# Altium schematic symbol library 4xxx_IEEE.SchLib: 99 symbols
Pins are listed as number, name and electrical type; pins without a type are passive.

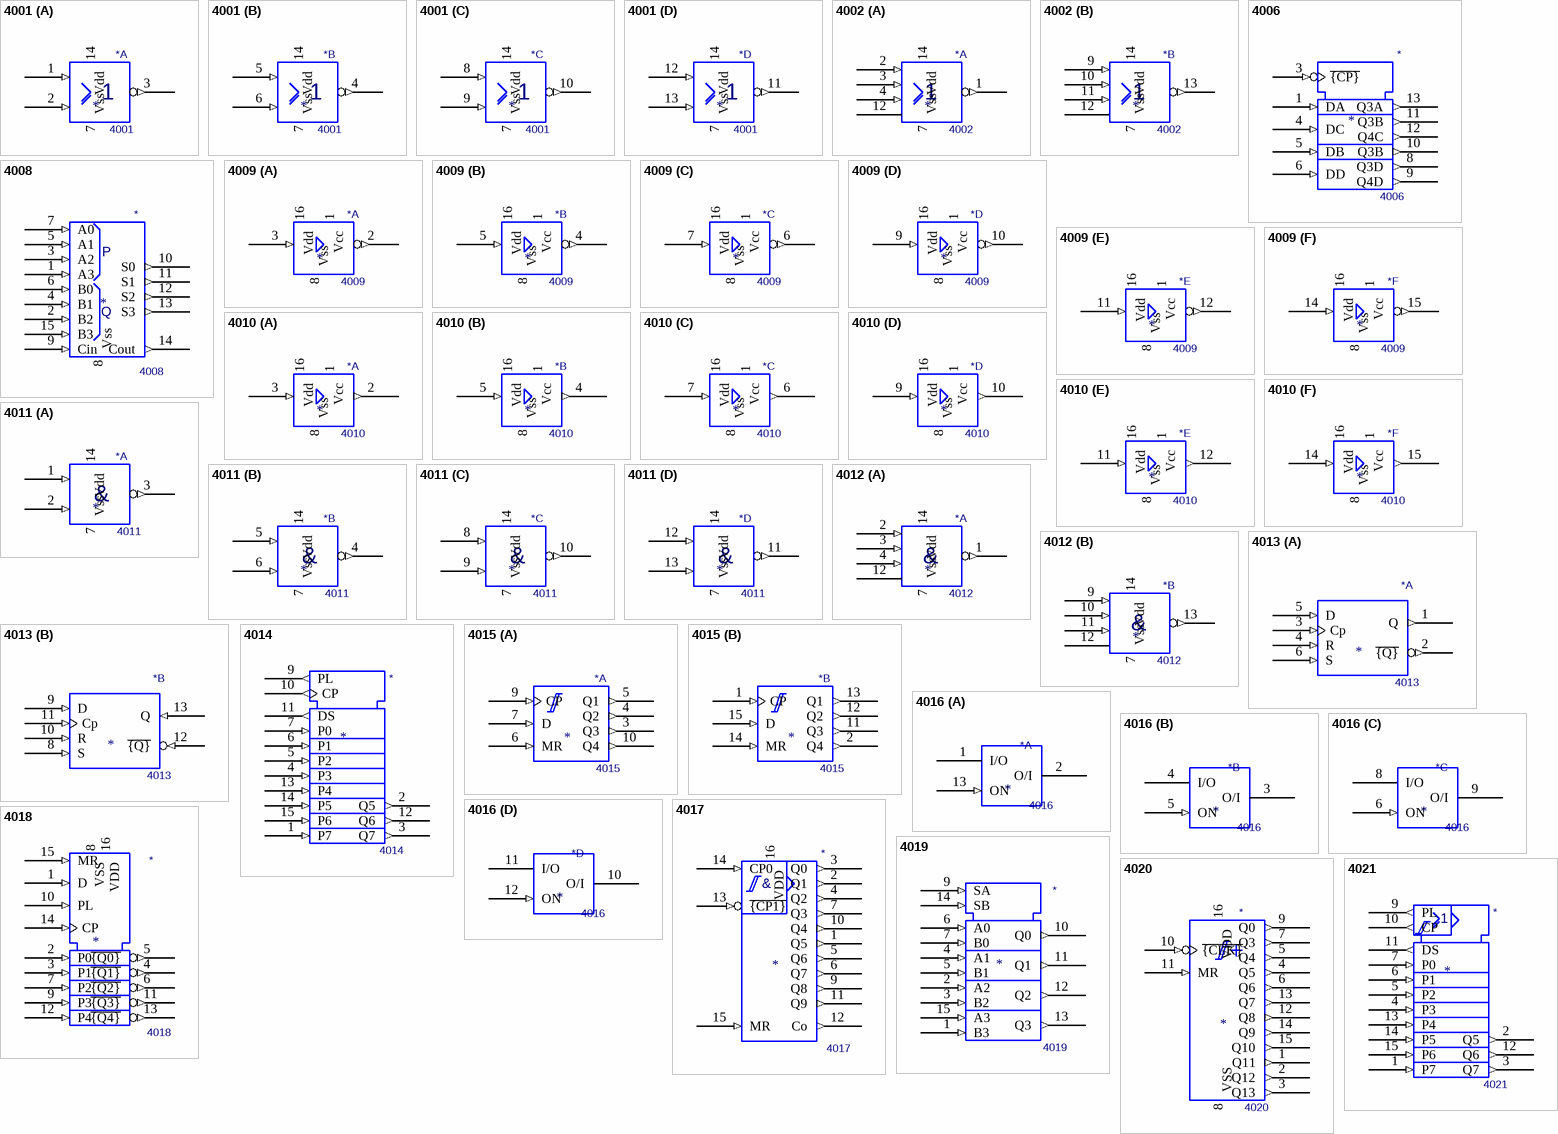
[diagram p0: symbols 4001 to 4021]

## 4001
designator *  value 4001
part A pins: 1 (in), 2 (in), 3 (out), 7 Vss (power), 14 Vdd (power)
part B pins: 4 (out), 5 (in), 6 (in), 7 Vss (power), 14 Vdd (power)
part C pins: 7 Vss (power), 8 (in), 9 (in), 10 (out), 14 Vdd (power)
part D pins: 7 Vss (power), 11 (out), 12 (in), 13 (in), 14 Vdd (power)

## 4002
designator *  value 4002
part A pins: 1 (out), 2 (in), 3 (in), 4 (in), 7 Vss (power), 12 (power), 14 Vdd (power)
part B pins: 7 Vss (power), 9 (in), 10 (in), 11 (in), 12 (power), 13 (out), 14 Vdd (power)

## 4006
designator *  value 4006
pins: 1 DA (in), 3 ~{{CP}} (in), 4 DC (in), 5 DB (in), 6 DD (in), 7 Vss (power) hidden, 8 Q3D (out), 9 Q4D (out), 10 Q3B (out), 11 Q3B (out), 12 Q4C (out), 13 Q3A (out), 14 Vdd (power) hidden

## 4008
designator *  value 4008
pins: 1 A3 (in), 2 B2 (in), 3 A2 (in), 4 B1 (in), 5 A1 (in), 6 B0 (in), 7 A0 (in), 8 Vss (out), 9 Cin (in), 10 S0 (out), 11 S1 (out), 12 S2 (out), 13 S3 (out), 14 Cout (out), 15 B3 (in), 16 Vdd (out) hidden
text: P; Q

## 4009
designator *  value 4009
part A pins: 1 Vcc (power), 2 (out), 3 (in), 8 Vss (power), 16 Vdd (power)
part B pins: 1 Vcc (power), 4 (out), 5 (in), 8 Vss (power), 16 Vdd (power)
part C pins: 1 Vcc (power), 6 (out), 7 (in), 8 Vss (power), 16 Vdd (power)
part D pins: 1 Vcc (power), 8 Vss (power), 9 (in), 10 (out), 16 Vdd (power)
part E pins: 1 Vcc (power), 8 Vss (power), 11 (in), 12 (out), 16 Vdd (power)
part F pins: 1 Vcc (power), 8 Vss (power), 14 (in), 15 (out), 16 Vdd (power)

## 4010
designator *  value 4010
part A pins: 1 Vcc (power), 2 (out), 3 (in), 8 Vss (power), 16 Vdd (power)
part B pins: 1 Vcc (power), 4 (out), 5 (in), 8 Vss (power), 16 Vdd (power)
part C pins: 1 Vcc (power), 6 (out), 7 (in), 8 Vss (power), 16 Vdd (power)
part D pins: 1 Vcc (power), 8 Vss (power), 9 (in), 10 (out), 16 Vdd (power)
part E pins: 1 Vcc (power), 8 Vss (power), 11 (in), 12 (out), 16 Vdd (power)
part F pins: 1 Vcc (power), 8 Vss (power), 14 (in), 15 (out), 16 Vdd (power)

## 4011
designator *  value 4011
part A pins: 1 (in), 2 (in), 3 (out), 7 Vss (power), 14 Vdd (power)
part B pins: 4 (out), 5 (in), 6 (in), 7 Vss (power), 14 Vdd (power)
part C pins: 7 Vss (power), 8 (in), 9 (in), 10 (out), 14 Vdd (power)
part D pins: 7 Vss (power), 11 (out), 12 (in), 13 (in), 14 Vdd (power)
part A text: &
part B text: &
part C text: &
part D text: &

## 4012
designator *  value 4012
part A pins: 1 (out), 2 (in), 3 (in), 4 (in), 7 Vss (power), 12 (power), 14 Vdd (power)
part B pins: 7 Vss (power), 9 (in), 10 (in), 11 (in), 12 (power), 13 (out), 14 Vdd (power)
part A text: &
part B text: &

## 4013
designator *  value 4013
part A pins: 1 Q (out), 2 ~{{Q}} (out), 3 Cp (in), 4 R (in), 5 D (in), 6 S (in), 7 Vss (power) hidden, 14 Vdd (power) hidden
part B pins: 7 Vss (power) hidden, 8 S (in), 9 D (in), 10 R (in), 11 Cp (in), 12 ~{{Q}} (in), 13 Q (in), 14 Vdd (power) hidden

## 4014
designator *  value 4014
pins: 1 P7 (in), 2 Q5 (out), 3 Q7 (out), 4 P3 (in), 5 P2 (in), 6 P1 (in), 7 P0 (in), 8 Vss (power) hidden, 9 PL (out), 10 CP (out), 11 DS (out), 12 Q6 (out), 13 P4 (in), 14 P5 (in), 15 P6 (in), 16 Vdd (power) hidden

## 4015
designator *  value 4015
part A pins: 3 Q3 (out), 4 Q2 (out), 5 Q1 (out), 6 MR (in), 7 D (in), 8 Vss (power) hidden, 9 CP (in), 10 Q4 (out), 16 Vdd (power) hidden
part B pins: 1 CP (in), 2 Q4 (out), 8 Vss (power) hidden, 11 Q3 (out), 12 Q2 (out), 13 Q1 (out), 14 MR (in), 15 D (in), 16 Vdd (power) hidden

## 4016
designator *  value 4016
part A pins: 1 I/O, 2 O/I, 7 Vss (power) hidden, 13 ON (in), 14 Vdd (power) hidden
part B pins: 3 O/I, 4 I/O, 5 ON (in), 7 Vss (power) hidden, 14 Vdd (power) hidden
part C pins: 6 ON (in), 7 Vss (power) hidden, 8 I/O, 9 O/I, 14 Vdd (power) hidden
part D pins: 7 Vss (power) hidden, 10 O/I, 11 I/O, 12 ON (in), 14 Vdd (power) hidden

## 4017
designator *  value 4017
pins: 1 Q5 (out), 2 Q1 (out), 3 Q0 (out), 4 Q2 (out), 5 Q6 (out), 6 Q7 (out), 7 Q3 (out), 8 VSS (power) hidden, 9 Q8 (out), 10 Q4 (out), 11 Q9 (out), 12 Co (out), 13 ~{{CP1}} (in), 14 CP0 (in), 15 MR (in), 16 VDD (power)
text: &

## 4018
designator *  value 4018
pins: 1 D (in), 2 P0 (in), 3 P1 (in), 4 ~{{Q1}} (out), 5 ~{{Q0}} (out), 6 ~{{Q2}} (out), 7 P2 (in), 8 VSS (power), 9 P3 (in), 10 PL (in), 11 ~{{Q3}} (out), 12 P4 (in), 13 ~{{Q4}} (out), 14 CP (in), 15 MR (in), 16 VDD (power)

## 4019
designator *  value 4019
pins: 1 B3 (in), 2 A2 (in), 3 B2 (in), 4 A1 (in), 5 B1 (in), 6 A0 (in), 7 B0 (in), 8 Vss (power) hidden, 9 SA (in), 10 Q0 (out), 11 Q1 (out), 12 Q2 (out), 13 Q3 (out), 14 SB (in), 15 A3 (in), 16 Vdd (power) hidden

## 4020
designator *  value 4020
pins: 1 Q11 (out), 2 Q12 (out), 3 Q13 (out), 4 Q5 (out), 5 Q4 (out), 6 Q6 (out), 7 Q3 (out), 8 VSS (power), 9 Q0 (out), 10 ~{{CLK}} (in), 11 MR (in), 12 Q8 (out), 13 Q7 (out), 14 Q9 (out), 15 Q10 (out), 16 VDD (power)

## 4021
designator *  value 4021
pins: 1 P7 (in), 2 Q5 (out), 3 Q7 (out), 4 P3 (in), 5 P2 (in), 6 P1 (in), 7 P0 (in), 8 Vss (power) hidden, 9 PL (out), 10 CP (out), 11 DS (out), 12 Q6 (out), 13 P4 (in), 14 P5 (in), 15 P6 (in), 16 Vdd (power) hidden

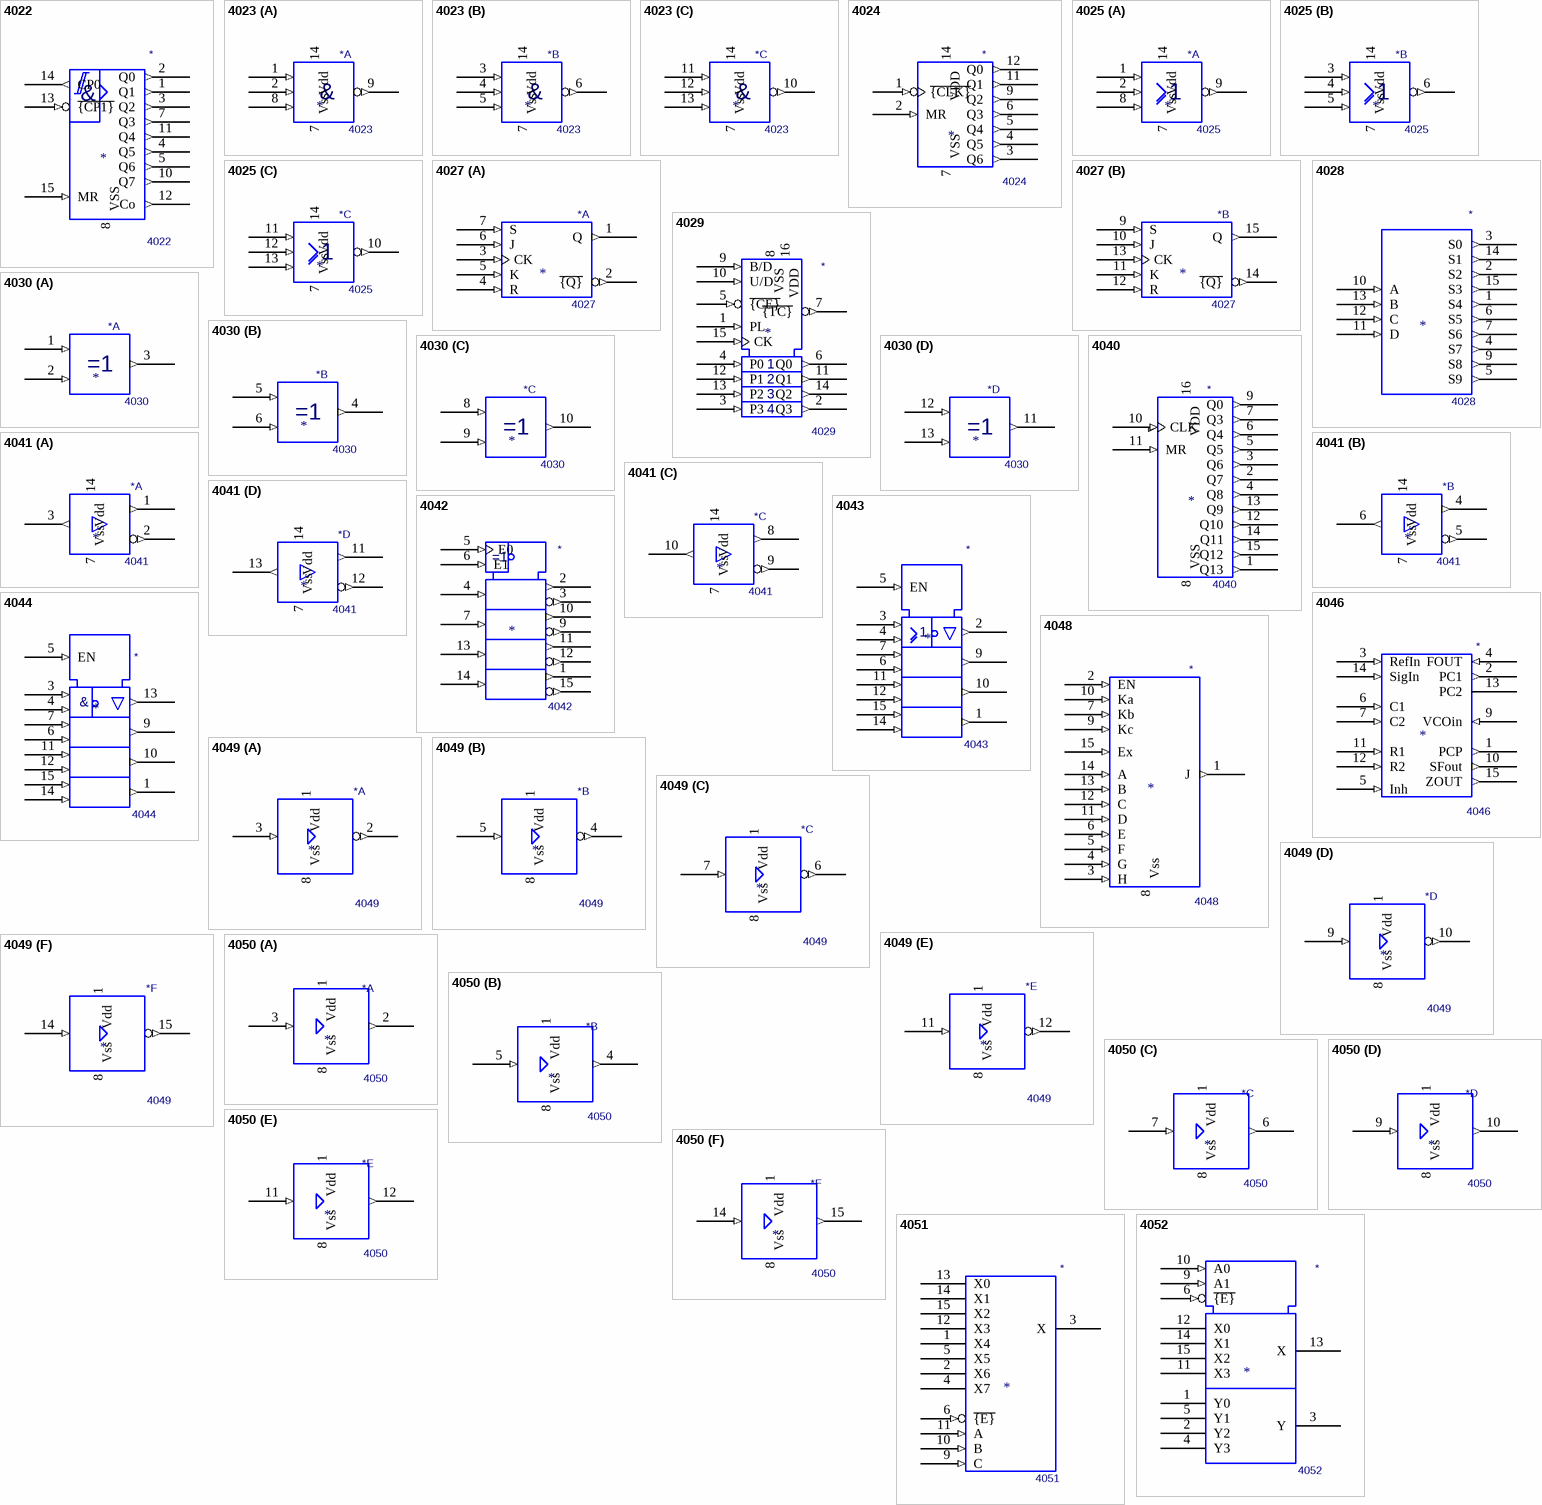
[diagram p1: symbols 4022 to 4052]

## 4022
designator *  value 4022
pins: 1 Q1 (out), 2 Q0 (out), 3 Q2 (out), 4 Q5 (out), 5 Q6 (out), 7 Q3 (out), 8 VSS (power), 10 Q7 (out), 11 Q4 (out), 12 Co (out), 13 ~{{CP1}} (in), 14 CP0 (out), 15 MR (in), 16 VDD (power) hidden
text: &

## 4023
designator *  value 4023
part A pins: 1 (in), 2 (in), 7 Vss (power), 8 (in), 9 (out), 14 Vdd (power)
part B pins: 3 (in), 4 (in), 5 (in), 6 (out), 7 Vss (power), 14 Vdd (power)
part C pins: 7 Vss (power), 10 (out), 11 (in), 12 (in), 13 (in), 14 Vdd (power)
part A text: &
part B text: &
part C text: &

## 4024
designator *  value 4024
pins: 1 ~{{CLK}} (in), 2 MR (in), 3 Q6 (out), 4 Q5 (out), 5 Q4 (out), 6 Q3 (out), 7 VSS (power), 9 Q2 (out), 11 Q1 (out), 12 Q0 (out), 14 VDD (power)

## 4025
designator *  value 4025
part A pins: 1 (in), 2 (in), 7 Vss (power), 8 (in), 9 (out), 14 Vdd (power)
part B pins: 3 (in), 4 (in), 5 (in), 6 (out), 7 Vss (power), 14 Vdd (power)
part C pins: 7 Vss (power), 10 (out), 11 (in), 12 (in), 13 (in), 14 Vdd (power)

## 4027
designator *  value 4027
part A pins: 1 Q (out), 2 ~{{Q}} (out), 3 CK (in), 4 R (in), 5 K (in), 6 J (in), 7 S (in), 8 VDD (power) hidden, 16 VDD (power) hidden
part B pins: 8 VDD (power) hidden, 9 S (in), 10 J (in), 11 K (in), 12 R (in), 13 CK (in), 14 ~{{Q}} (out), 15 Q (out), 16 VDD (power) hidden

## 4028
designator *  value 4028
pins: 1 S4 (out), 2 S2 (out), 3 S0 (out), 4 S7 (out), 5 S9 (out), 6 S5 (out), 7 S6 (out), 8 VSS (power) hidden, 9 S8 (out), 10 A (in), 11 D (in), 12 C (in), 13 B (in), 14 S1 (out), 15 S3 (out), 16 VDD (power) hidden

## 4029
designator *  value 4029
pins: 1 PL (in), 2 Q3 (out), 3 P3 (in), 4 P0 (in), 5 ~{{CE}} (in), 6 Q0 (out), 7 ~{{TC}} (out), 8 VSS (power), 9 B/D (in), 10 U/D (in), 11 Q1 (out), 12 P1 (in), 13 P2 (in), 14 Q2 (out), 15 CK (in), 16 VDD (power)

## 4030
designator *  value 4030
part A pins: 1 (in), 2 (in), 3 (out), 7 Vss (power) hidden, 14 Vdd (power) hidden
part B pins: 4 (out), 5 (in), 6 (in), 7 Vss (power) hidden, 14 Vdd (power) hidden
part C pins: 7 Vss (power) hidden, 8 (in), 9 (in), 10 (out), 14 Vdd (power) hidden
part D pins: 7 Vss (power) hidden, 11 (out), 12 (in), 13 (in), 14 Vdd (power) hidden

## 4040
designator *  value 4040
pins: 1 Q13 (out), 2 Q7 (out), 3 Q6 (out), 4 Q8 (out), 5 Q5 (out), 6 Q4 (out), 7 Q3 (out), 8 VSS (power), 9 Q0 (out), 10 CLK (in), 11 MR (in), 12 Q10 (out), 13 Q9 (out), 14 Q11 (out), 15 Q12 (out), 16 VDD (power)

## 4041
designator *  value 4041
part A pins: 1 (out), 2 (out), 3 (out), 7 Vss (power), 14 Vdd (power)
part B pins: 4 (out), 5 (out), 6 (out), 7 Vss (power), 14 Vdd (power)
part C pins: 7 Vss (power), 8 (out), 9 (out), 10 (out), 14 Vdd (power)
part D pins: 7 Vss (power), 11 (out), 12 (out), 13 (out), 14 Vdd (power)

## 4042
designator *  value 4042
pins: 1 (out), 2 (out), 3 (out), 4 (in), 5 E0 (in), 6 E1 (in), 7 (in), 8 Vss (power) hidden, 9 (out), 10 (out), 11 (out), 12 (out), 13 (in), 14 (in), 15 (out), 16 Vdd (power) hidden

## 4043
designator *  value 4043
pins: 1 (out), 2 (out), 3 (in), 4 (in), 5 EN (in), 6 (in), 7 (in), 8 Vss (in) hidden, 9 (out), 10 (out), 11 (in), 12 (in), 14 (in), 15 (in), 16 Vdd (in) hidden

## 4044
designator *  value 4044
pins: 1 (out), 3 (in), 4 (in), 5 EN (in), 6 (in), 7 (in), 8 Vss (power) hidden, 9 (out), 10 (out), 11 (in), 12 (in), 13 (out), 14 (in), 15 (in), 16 Vdd (power) hidden
text: &

## 4046
designator *  value 4046
pins: 1 PCP (out), 2 PC1 (out), 3 RefIn (in), 4 FOUT (in), 5 Inh (in), 6 C1 (in), 7 C2 (in), 8 VSS (power) hidden, 9 VCOin (in), 10 SFout (out), 11 R1 (in), 12 R2 (in), 13 PC2 (hiz), 14 SigIn (in), 15 ZOUT (out), 16 VDD (power) hidden

## 4048
designator *  value 4048
pins: 1 J (out), 2 EN (in), 3 H (in), 4 G (in), 5 F (in), 6 E (in), 7 Kb (in), 8 Vss (power), 9 Kc (in), 10 Ka (in), 11 D (in), 12 C (in), 13 B (in), 14 A (in), 15 Ex (in), 16 Vdd (power) hidden

## 4049
designator *  value 4049
part A pins: 1 Vdd (power), 2 (out), 3 (in), 8 Vss (power)
part B pins: 1 Vdd (power), 4 (out), 5 (in), 8 Vss (power)
part C pins: 1 Vdd (power), 6 (out), 7 (in), 8 Vss (power)
part D pins: 1 Vdd (power), 8 Vss (power), 9 (in), 10 (out)
part E pins: 1 Vdd (power), 8 Vss (power), 11 (in), 12 (out)
part F pins: 1 Vdd (power), 8 Vss (power), 14 (in), 15 (out)

## 4050
designator *  value 4050
part A pins: 1 Vdd (power), 2 (out), 3 (in), 8 Vss (power)
part B pins: 1 Vdd (power), 4 (out), 5 (in), 8 Vss (power)
part C pins: 1 Vdd (power), 6 (out), 7 (in), 8 Vss (power)
part D pins: 1 Vdd (power), 8 Vss (power), 9 (in), 10 (out)
part E pins: 1 Vdd (power), 8 Vss (power), 11 (in), 12 (out)
part F pins: 1 Vdd (power), 8 Vss (power), 14 (in), 15 (out)

## 4051
designator *  value 4051
pins: 1 X4, 2 X6, 3 X, 4 X7, 5 X5, 6 ~{{E}} (in), 7 VEE (power) hidden, 8 Vss (power) hidden, 9 C (in), 10 B (in), 11 A (in), 12 X3, 13 X0, 14 X1, 15 X2, 16 Vdd (power) hidden

## 4052
designator *  value 4052
pins: 1 Y0, 2 Y2, 3 Y, 4 Y3, 5 Y1, 6 ~{{E}} (in), 7 VEE (power) hidden, 8 Vss (power) hidden, 9 A1 (in), 10 A0 (in), 11 X3, 12 X0, 13 X, 14 X1, 15 X2, 16 Vdd (power) hidden

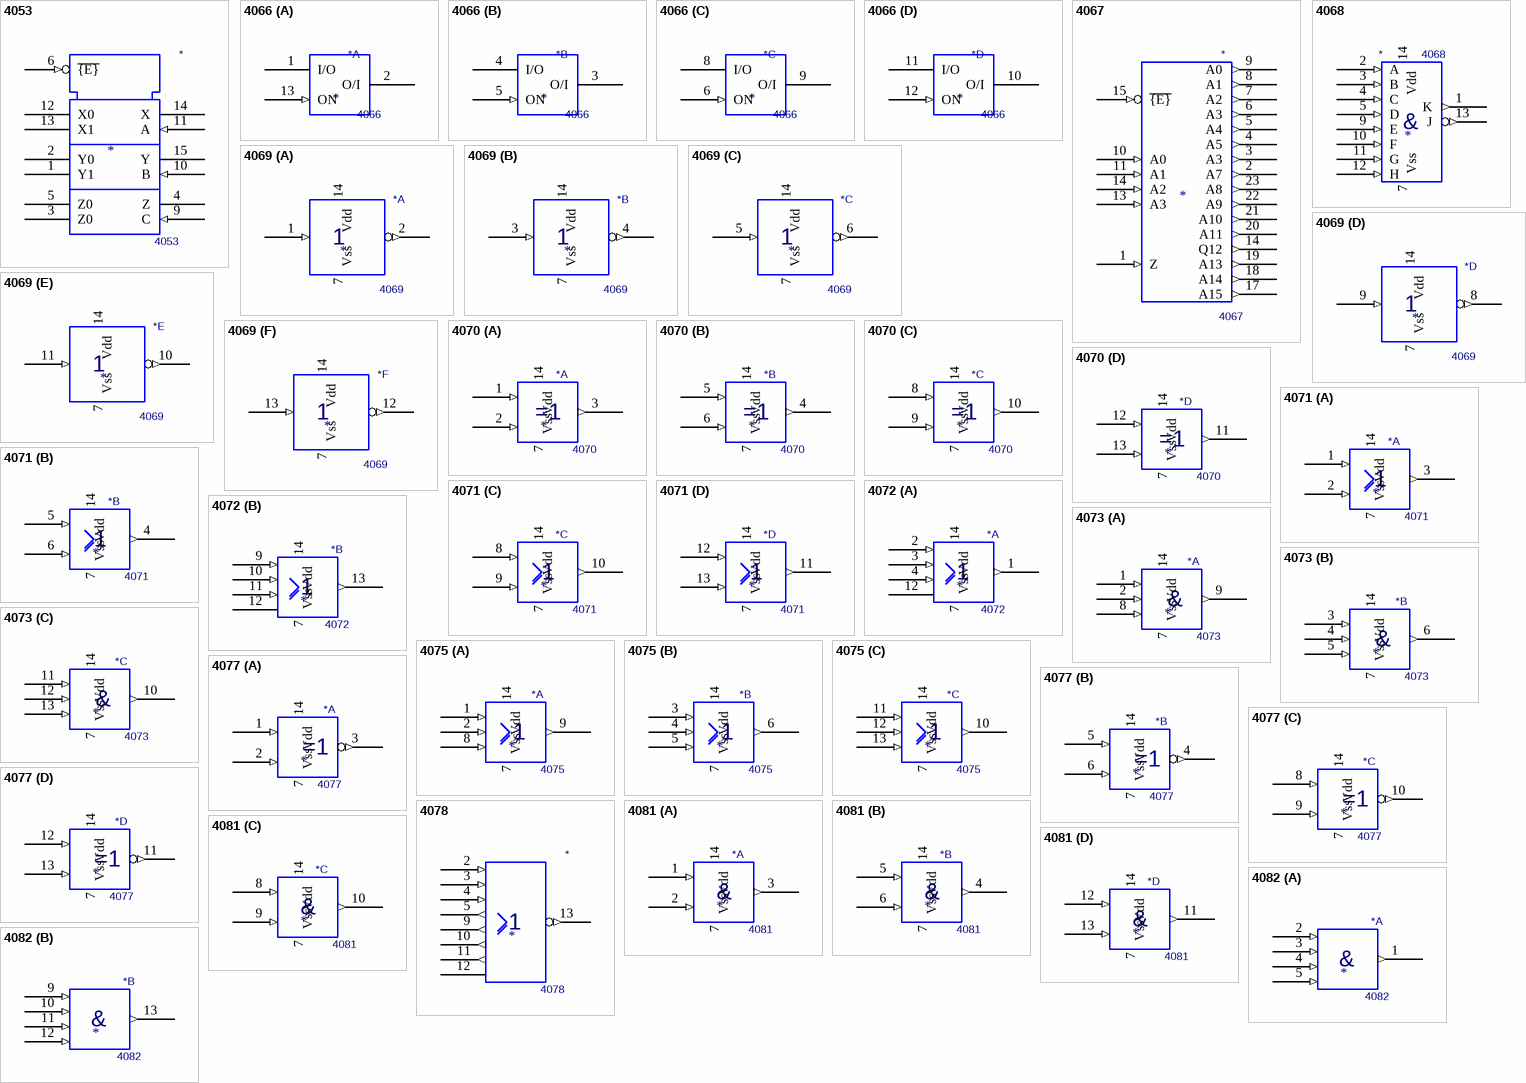
[diagram p2: symbols 4053 to 4082]

## 4053
designator *  value 4053
pins: 1 Y1, 2 Y0, 3 Z0, 4 Z, 5 Z0, 6 ~{{E}} (in), 7 VEE (power) hidden, 8 VSS (power) hidden, 9 C (in), 10 B (in), 11 A (in), 12 X0, 13 X1, 14 X, 15 Y, 16 VDD (power) hidden

## 4066
designator *  value 4066
part A pins: 1 I/O, 2 O/I, 7 Vss (power) hidden, 13 ON (in), 14 Vdd (power) hidden
part B pins: 3 O/I, 4 I/O, 5 ON (in), 7 Vss (power) hidden, 14 Vdd (power) hidden
part C pins: 6 ON (in), 7 Vss (power) hidden, 8 I/O, 9 O/I, 14 Vdd (power) hidden
part D pins: 7 Vss (power) hidden, 10 O/I, 11 I/O, 12 ON (in), 14 Vdd (power) hidden

## 4067
designator *  value 4067
pins: 1 Z (in), 2 A7 (out), 3 A3 (out), 4 A5 (out), 5 A4 (out), 6 A3 (out), 7 A2 (out), 8 A1 (out), 9 A0 (out), 10 A0 (in), 11 A1 (in), 12 Vss (power) hidden, 13 A3 (in), 14 A2 (in), 14 Q12 (out), 15 ~{{E}} (in), 17 A15 (out), 18 A14 (out), 19 A13 (out), 20 A11 (out), 21 A10 (out), 22 A9 (out), 23 A8 (out), 24 Vdd (power) hidden

## 4068
designator *  value 4068
ki_keywords: cmos nand and 8-input; ki_description: CMOS 8-input NAND/AND Gate; Supplier: http://www.ti.com/lit/ds/symlink/cd4068b.pdf
pins: 1 K (out), 2 A (in), 3 B (in), 4 C (in), 5 D (in), 7 Vss (power), 9 E (in), 10 F (in), 11 G (in), 12 H (in), 13 J (out), 14 Vdd (power)
text: &

## 4069
designator *  value 4069
part A pins: 1 (in), 2 (out), 7 Vss (power), 14 Vdd (power)
part B pins: 3 (in), 4 (out), 7 Vss (power), 14 Vdd (power)
part C pins: 5 (in), 6 (out), 7 Vss (power), 14 Vdd (power)
part D pins: 7 Vss (power), 8 (out), 9 (in), 14 Vdd (power)
part E pins: 7 Vss (power), 10 (out), 11 (in), 14 Vdd (power)
part F pins: 7 Vss (power), 12 (out), 13 (in), 14 Vdd (power)

## 4070
designator *  value 4070
part A pins: 1 (in), 2 (in), 3 (out), 7 Vss (power), 14 Vdd (power)
part B pins: 4 (out), 5 (in), 6 (in), 7 Vss (power), 14 Vdd (power)
part C pins: 7 Vss (power), 8 (in), 9 (in), 10 (out), 14 Vdd (power)
part D pins: 7 Vss (power), 11 (out), 12 (in), 13 (in), 14 Vdd (power)

## 4071
designator *  value 4071
part A pins: 1 (in), 2 (in), 3 (out), 7 Vss (power), 14 Vdd (power)
part B pins: 4 (out), 5 (in), 6 (in), 7 Vss (power), 14 Vdd (power)
part C pins: 7 Vss (power), 8 (in), 9 (in), 10 (out), 14 Vdd (power)
part D pins: 7 Vss (power), 11 (out), 12 (in), 13 (in), 14 Vdd (power)

## 4072
designator *  value 4072
part A pins: 1 (out), 2 (in), 3 (in), 4 (in), 7 Vss (power), 12 (power), 14 Vdd (power)
part B pins: 7 Vss (power), 9 (in), 10 (in), 11 (in), 12 (power), 13 (out), 14 Vdd (power)

## 4073
designator *  value 4073
part A pins: 1 (in), 2 (in), 7 Vss (power), 8 (in), 9 (out), 14 Vdd (power)
part B pins: 3 (in), 4 (in), 5 (in), 6 (out), 7 Vss (power), 14 Vdd (power)
part C pins: 7 Vss (power), 10 (out), 11 (in), 12 (in), 13 (in), 14 Vdd (power)
part A text: &
part B text: &
part C text: &

## 4075
designator *  value 4075
part A pins: 1 (in), 2 (in), 7 Vss (power), 8 (in), 9 (out), 14 Vdd (power)
part B pins: 3 (in), 4 (in), 5 (in), 6 (out), 7 Vss (power), 14 Vdd (power)
part C pins: 7 Vss (power), 10 (out), 11 (in), 12 (in), 13 (in), 14 Vdd (power)

## 4077
designator *  value 4077
part A pins: 1 (in), 2 (in), 3 (out), 7 Vss (power), 14 Vdd (power)
part B pins: 4 (out), 5 (in), 6 (in), 7 Vss (power), 14 Vdd (power)
part C pins: 7 Vss (power), 8 (in), 9 (in), 10 (out), 14 Vdd (power)
part D pins: 7 Vss (power), 11 (out), 12 (in), 13 (in), 14 Vdd (power)

## 4078
designator *  value 4078
pins: 2 (in), 3 (in), 4 (in), 5 (out), 7 Vss (power) hidden, 9 (out), 10 (out), 11 (out), 12 (power), 13 (out), 14 Vdd (power) hidden
text: 1

## 4081
designator *  value 4081
part A pins: 1 (in), 2 (in), 3 (out), 7 Vss (power), 14 Vdd (power)
part B pins: 4 (out), 5 (in), 6 (in), 7 Vss (power), 14 Vdd (power)
part C pins: 7 Vss (power), 8 (in), 9 (in), 10 (out), 14 Vdd (power)
part D pins: 7 Vss (power), 11 (out), 12 (in), 13 (in), 14 Vdd (power)
part A text: &
part B text: &
part C text: &
part D text: &

## 4082
designator *  value 4082
part A pins: 1 (out), 2 (in), 3 (in), 4 (in), 5 (in), 7 Vss (power) hidden, 14 Vdd (power) hidden
part B pins: 7 Vss (power) hidden, 9 (in), 10 (in), 11 (in), 12 (in), 13 (out), 14 Vdd (power) hidden
part A text: &
part B text: &

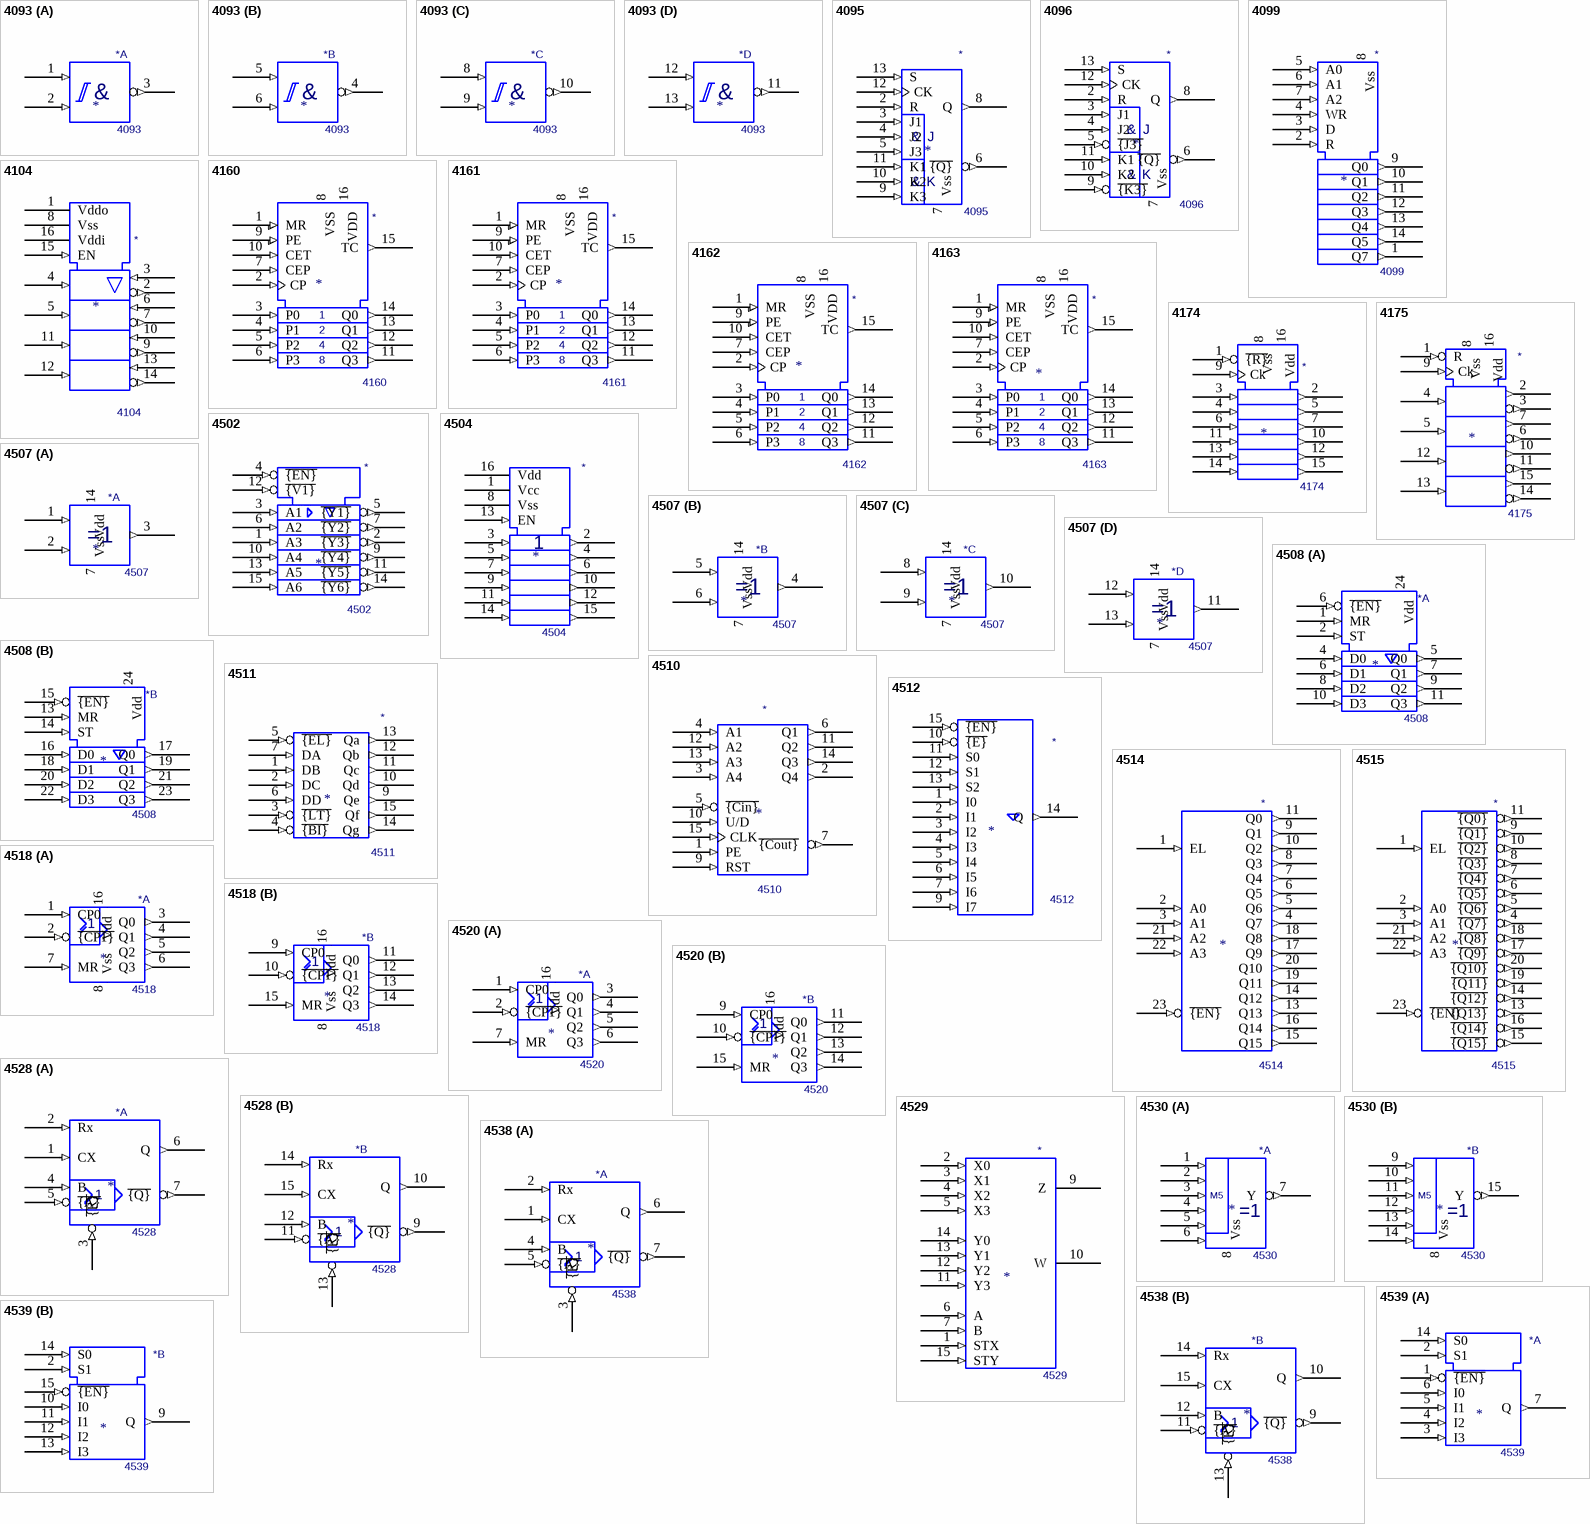
[diagram p3: symbols 4093 to 4539]

## 4093
designator *  value 4093
part A pins: 1 (in), 2 (in), 3 (out), 7 Vss (power) hidden, 14 Vdd (power) hidden
part B pins: 4 (out), 5 (in), 6 (in), 7 Vss (power) hidden, 14 Vdd (power) hidden
part C pins: 7 Vss (power) hidden, 8 (in), 9 (in), 10 (out), 14 Vdd (power) hidden
part D pins: 7 Vss (power) hidden, 11 (out), 12 (in), 13 (in), 14 Vdd (power) hidden
part A text: &
part B text: &
part C text: &
part D text: &

## 4095
designator *  value 4095
pins: 2 R (in), 3 J1 (in), 4 J2 (in), 5 J3 (in), 6 ~{{Q}} (out), 7 Vss (power), 8 Q (out), 9 K3 (in), 10 K2 (in), 11 K1 (in), 12 CK (in), 13 S (in), 14 Vdd (power) hidden
text: &; J; K

## 4096
designator *  value 4096
pins: 2 R (in), 3 J1 (in), 4 J2 (in), 5 ~{{J3}} (in), 6 ~{{Q}} (out), 7 Vss (power), 8 Q (out), 9 ~{{K3}} (in), 10 K2 (in), 11 K1 (in), 12 CK (in), 13 S (in), 14 Vdd (power) hidden
text: &; J; K

## 4099
designator *  value 4099
pins: 1 Q7 (out), 2 R (in), 3 D (in), 4 WR (in), 5 A0 (in), 6 A1 (in), 7 A2 (in), 8 Vss (power), 9 Q0 (out), 10 Q1 (out), 11 Q2 (out), 12 Q3 (out), 13 Q4 (out), 14 Q5 (out), 16 Vdd (power) hidden

## 4104
designator *  value 4104
pins: 1 Vddo (power), 2 (out), 3 (in), 4 (in), 5 (in), 6 (in), 7 (out), 8 Vss (power), 9 (out), 10 (in), 11 (in), 12 (in), 13 (in), 14 (out), 15 EN (in), 16 Vddi (power)

## 4160
designator *  value 4160
pins: 1 MR (in), 2 CP (in), 3 P0 (in), 4 P1 (in), 5 P2 (in), 6 P3 (in), 7 CEP (in), 8 VSS (power), 9 PE (in), 10 CET (in), 11 Q3 (out), 12 Q2 (out), 13 Q1 (out), 14 Q0 (out), 15 TC (out), 16 VDD (power)

## 4161
designator *  value 4161
pins: 1 MR (in), 2 CP (in), 3 P0 (in), 4 P1 (in), 5 P2 (in), 6 P3 (in), 7 CEP (in), 8 VSS (power), 9 PE (in), 10 CET (in), 11 Q3 (out), 12 Q2 (out), 13 Q1 (out), 14 Q0 (out), 15 TC (out), 16 VDD (power)

## 4162
designator *  value 4162
pins: 1 MR (in), 2 CP (in), 3 P0 (in), 4 P1 (in), 5 P2 (in), 6 P3 (in), 7 CEP (in), 8 VSS (power), 9 PE (in), 10 CET (in), 11 Q3 (out), 12 Q2 (out), 13 Q1 (out), 14 Q0 (out), 15 TC (out), 16 VDD (power)

## 4163
designator *  value 4163
pins: 1 MR (in), 2 CP (in), 3 P0 (in), 4 P1 (in), 5 P2 (in), 6 P3 (in), 7 CEP (in), 8 VSS (power), 9 PE (in), 10 CET (in), 11 Q3 (out), 12 Q2 (out), 13 Q1 (out), 14 Q0 (out), 15 TC (out), 16 VDD (power)

## 4174
designator *  value 4174
pins: 1 ~{{R}} (in), 2 (out), 3 (in), 4 (in), 5 (out), 6 (in), 7 (out), 8 Vss (power), 9 Ck (in), 10 (out), 11 (in), 12 (out), 13 (in), 14 (in), 15 (out), 16 Vdd (power)

## 4175
designator *  value 4175
pins: 1 R (in), 2 (out), 3 (out), 4 (in), 5 (in), 6 (out), 7 (out), 8 Vss (power), 9 Ck (in), 10 (out), 11 (out), 12 (in), 13 (in), 14 (out), 15 (out), 16 Vdd (power)

## 4502
designator *  value 4502
pins: 1 A3 (in), 2 ~{{Y3}} (out), 3 A1 (in), 4 ~{{EN}} (in), 5 ~{{Y1}} (out), 6 A2 (in), 7 ~{{Y2}} (out), 8 Vss (power) hidden, 9 ~{{Y4}} (out), 10 A4 (in), 11 ~{{Y5}} (out), 12 ~{{V1}} (in), 13 A5 (in), 14 ~{{Y6}} (out), 15 A6 (in), 16 Vdd (power) hidden

## 4504
designator *  value 4504
ki_keywords: cmos, level converter; ki_description: 4504 Hex Voltage-level Shifter; Supplier: http://www.ti.com/lit/ds/symlink/cd4504b.pdf
pins: 1 Vcc (power), 2 (out), 3 (in), 4 (out), 5 (in), 6 (out), 7 (in), 8 Vss (power), 9 (in), 10 (out), 11 (in), 12 (out), 13 EN (in), 14 (in), 15 (out), 16 Vdd (power)

## 4507
designator *  value 4507
part A pins: 1 (in), 2 (in), 3 (out), 7 Vss (power), 14 Vdd (power)
part B pins: 4 (out), 5 (in), 6 (in), 7 Vss (power), 14 Vdd (power)
part C pins: 7 Vss (power), 8 (in), 9 (in), 10 (out), 14 Vdd (power)
part D pins: 7 Vss (power), 11 (out), 12 (in), 13 (in), 14 Vdd (power)

## 4508
designator *  value 4508
part A pins: 1 MR (in), 2 ST (in), 4 D0 (in), 5 Q0 (out), 6 ~{{EN}} (in), 6 D1 (in), 7 Q1 (out), 8 D2 (in), 9 Q2 (out), 10 D3 (in), 11 Q3 (out), 12 Vss (power) hidden, 24 Vdd (power)
part B pins: 12 Vss (power) hidden, 13 MR (in), 14 ST (in), 15 ~{{EN}} (in), 16 D0 (in), 17 Q0 (out), 18 D1 (in), 19 Q1 (out), 20 D2 (in), 21 Q2 (out), 22 D3 (in), 23 Q3 (out), 24 Vdd (power)

## 4510
designator *  value 4510
pins: 1 PE (in), 2 Q4 (out), 3 A4 (in), 4 A1 (in), 5 ~{{Cin}} (in), 6 Q1 (out), 7 ~{{Cout}} (out), 8 Vss (power) hidden, 9 RST (in), 10 U/D (in), 11 Q2 (out), 12 A2 (in), 13 A3 (in), 14 Q3 (out), 15 CLK (in), 16 Vdd (power) hidden

## 4511
designator *  value 4511
pins: 1 DB (in), 2 DC (in), 3 ~{{LT}} (in), 4 ~{{BI}} (in), 5 ~{{EL}} (in), 6 DD (in), 7 DA (in), 8 Vss (power) hidden, 9 Qe (out), 10 Qd (out), 11 Qc (out), 12 Qb (out), 13 Qa (out), 14 Qg (out), 15 Qf (out), 16 Vdd (power) hidden

## 4512
designator *  value 4512
pins: 1 I0 (in), 2 I1 (in), 3 I2 (in), 4 I3 (in), 5 I4 (in), 6 I5 (in), 7 I6 (in), 8 Vss (power) hidden, 9 I7 (in), 10 ~{{E}} (in), 11 S0 (in), 12 S1 (in), 13 S2 (in), 14 Q (out), 15 ~{{EN}} (in), 16 Vdd (power) hidden

## 4514
designator *  value 4514
pins: 1 EL (in), 2 A0 (in), 3 A1 (in), 4 Q7 (out), 5 Q6 (out), 6 Q5 (out), 7 Q4 (out), 8 Q3 (out), 9 Q1 (out), 10 Q2 (out), 11 Q0 (out), 12 Vss (power) hidden, 13 Q13 (out), 14 Q12 (out), 15 Q15 (out), 16 Q14 (out), 17 Q9 (out), 18 Q8 (out), 19 Q11 (out), 20 Q10 (out), 21 A2 (in), 22 A3 (in), 23 ~{{EN}} (in), 24 Vdd (power) hidden

## 4515
designator *  value 4515
pins: 1 EL (in), 2 A0 (in), 3 A1 (in), 4 ~{{Q7}} (out), 5 ~{{Q6}} (out), 6 ~{{Q5}} (out), 7 ~{{Q4}} (out), 8 ~{{Q3}} (out), 9 ~{{Q1}} (out), 10 ~{{Q2}} (out), 11 ~{{Q0}} (out), 12 Vss (power) hidden, 13 ~{{Q13}} (out), 14 ~{{Q12}} (out), 15 ~{{Q15}} (out), 16 ~{{Q14}} (out), 17 ~{{Q9}} (out), 18 ~{{Q8}} (out), 19 ~{{Q11}} (out), 20 ~{{Q10}} (out), 21 A2 (in), 22 A3 (in), 23 ~{{EN}} (in), 24 Vdd (power) hidden

## 4518
designator *  value 4518
part A pins: 1 CP0 (in), 2 ~{{CP1}} (in), 3 Q0 (out), 4 Q1 (out), 5 Q2 (out), 6 Q3 (out), 7 MR (in), 8 Vss (power), 16 Vdd (power)
part B pins: 8 Vss (power), 9 CP0 (in), 10 ~{{CP1}} (in), 11 Q0 (out), 12 Q1 (out), 13 Q2 (out), 14 Q3 (out), 15 MR (in), 16 Vdd (power)

## 4520
designator *  value 4520
part A pins: 1 CP0 (in), 2 ~{{CP1}} (in), 3 Q0 (out), 4 Q1 (out), 5 Q2 (out), 6 Q3 (out), 7 MR (in), 8 Vss (power) hidden, 16 Vdd (power)
part B pins: 8 Vss (power) hidden, 9 CP0 (in), 10 ~{{CP1}} (in), 11 Q0 (out), 12 Q1 (out), 13 Q2 (out), 14 Q3 (out), 15 MR (in), 16 Vdd (power)

## 4528
designator *  value 4528
part A pins: 1 CX (in), 2 Rx (in), 3 ~{{R}} (in), 4 B (in), 5 ~{{A}} (in), 6 Q (out), 7 ~{{Q}} (out), 8 VSS (power) hidden, 16 VDD (power) hidden
part B pins: 8 VSS (power) hidden, 9 ~{{Q}} (out), 10 Q (out), 11 ~{{A}} (in), 12 B (in), 13 ~{{R}} (in), 14 Rx (in), 15 CX (in), 16 VDD (power) hidden

## 4529
designator *  value 4529
pins: 1 STX (in), 2 X0 (in), 3 X1 (in), 4 X2 (in), 5 X3 (in), 6 A (in), 7 B (in), 8 VSS (power) hidden, 9 Z (hiz), 10 W (hiz), 11 Y3 (in), 12 Y2 (in), 13 Y1 (in), 14 Y0 (in), 15 STY (in), 16 VDD (power) hidden

## 4530
designator *  value 4530
part A pins: 1 (in), 2 (in), 3 (in), 4 (in), 5 (in), 6 (in), 7 Y (out), 8 Vss (power), 16 Vdd (power) hidden
part B pins: 8 Vss (power), 9 (in), 10 (in), 11 (in), 12 (in), 13 (in), 14 (in), 15 Y (out), 16 Vdd (power) hidden
part A text: M5
part B text: M5

## 4538
designator *  value 4538
part A pins: 1 CX (in), 2 Rx (in), 3 ~{{R}} (in), 4 B (in), 5 ~{{A}} (in), 6 Q (out), 7 ~{{Q}} (out), 8 VSS (power) hidden, 16 VDD (power) hidden
part B pins: 8 VSS (power) hidden, 9 ~{{Q}} (out), 10 Q (out), 11 ~{{A}} (in), 12 B (in), 13 ~{{R}} (in), 14 Rx (in), 15 CX (in), 16 VDD (power) hidden

## 4539
designator *  value 4539
part A pins: 1 ~{{EN}} (in), 2 S1 (in), 3 I3 (in), 4 I2 (in), 5 I1 (in), 6 I0 (in), 7 Q (out), 8 Vss (power) hidden, 14 S0 (in), 16 Vdd (power) hidden
part B pins: 2 S1 (in), 8 Vss (power) hidden, 9 Q (out), 10 I0 (in), 11 I1 (in), 12 I2 (in), 13 I3 (in), 14 S0 (in), 15 ~{{EN}} (in), 16 Vdd (power) hidden

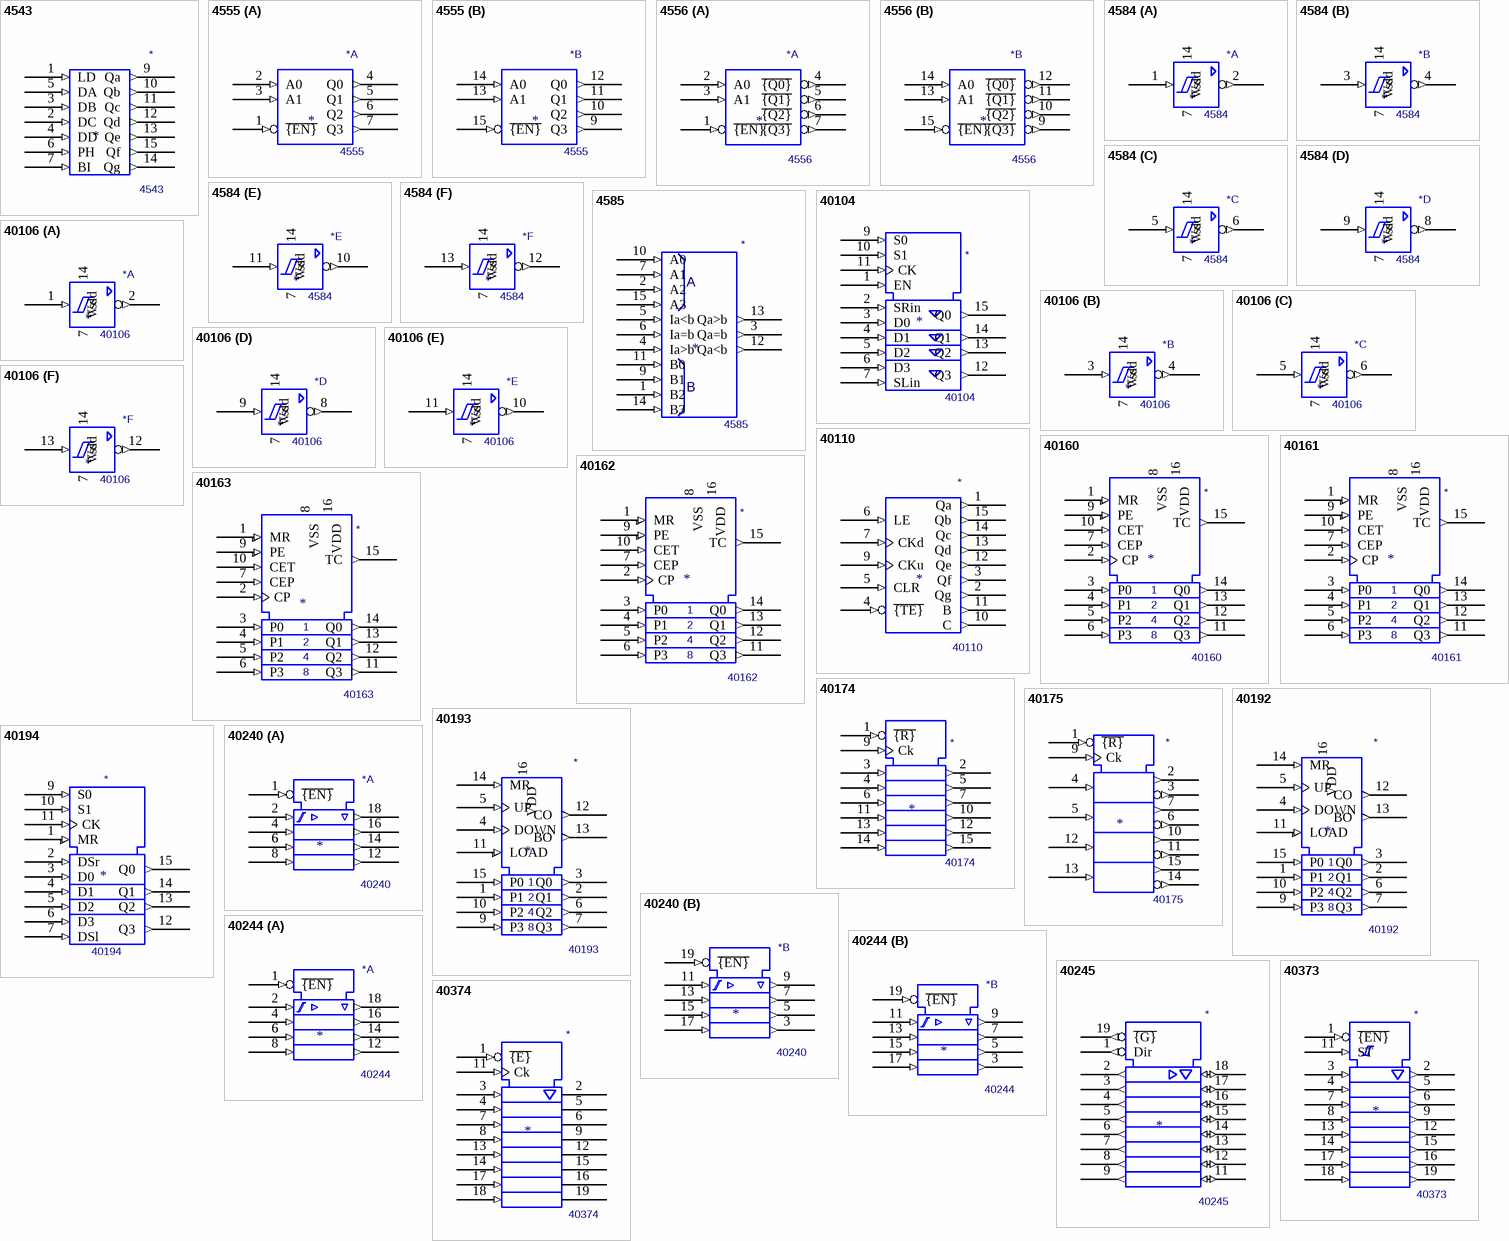
[diagram p4: symbols 4543 to 40374]

## 4543
designator *  value 4543
pins: 1 LD (in), 2 DC (in), 3 DB (in), 4 DD (in), 5 DA (in), 6 PH (in), 7 BI (in), 8 Vss (power) hidden, 9 Qa (out), 10 Qb (out), 11 Qc (out), 12 Qd (out), 13 Qe (out), 14 Qg (out), 15 Qf (out), 16 Vdd (power) hidden

## 4555
designator *  value 4555
part A pins: 1 ~{{EN}} (in), 2 A0 (in), 3 A1 (in), 4 Q0 (out), 5 Q1 (out), 6 Q2 (out), 7 Q3 (out), 8 Vss (power) hidden, 16 Vdd (power) hidden
part B pins: 8 Vss (power) hidden, 9 Q3 (out), 10 Q2 (out), 11 Q1 (out), 12 Q0 (out), 13 A1 (in), 14 A0 (in), 15 ~{{EN}} (in), 16 Vdd (power) hidden

## 4556
designator *  value 4556
part A pins: 1 ~{{EN}} (in), 2 A0 (in), 3 A1 (in), 4 ~{{Q0}} (out), 5 ~{{Q1}} (out), 6 ~{{Q2}} (out), 7 ~{{Q3}} (out), 8 Vss (power) hidden, 16 Vdd (power) hidden
part B pins: 8 Vss (power) hidden, 9 ~{{Q3}} (out), 10 ~{{Q2}} (out), 11 ~{{Q1}} (out), 12 ~{{Q0}} (out), 13 A1 (in), 14 A0 (in), 15 ~{{EN}} (in), 16 Vdd (power) hidden

## 4584
designator *  value 4584
part A pins: 1 (in), 2 (out), 7 Vss (power), 14 Vdd (power)
part B pins: 3 (in), 4 (out), 7 Vss (power), 14 Vdd (power)
part C pins: 5 (in), 6 (out), 7 Vss (power), 14 Vdd (power)
part D pins: 7 Vss (power), 8 (out), 9 (in), 14 Vdd (power)
part E pins: 7 Vss (power), 10 (out), 11 (in), 14 Vdd (power)
part F pins: 7 Vss (power), 12 (out), 13 (in), 14 Vdd (power)

## 4585
designator *  value 4585
pins: 1 B2 (in), 2 A2 (in), 3 Qa=b (out), 4 Ia>b (in), 5 Ia<b (in), 6 Ia=b (in), 7 A1 (in), 8 Vss (power) hidden, 9 B1 (in), 10 A0 (in), 11 B0 (in), 12 Qa<b (out), 13 Qa>b (out), 14 B3 (in), 15 A3 (in), 16 Vdd (power) hidden
text: A; B

## 40104
designator *  value 40104
pins: 1 EN (in), 2 SRin (in), 3 D0 (in), 4 D1 (in), 5 D2 (in), 6 D3 (in), 7 SLin (in), 8 Vss (power) hidden, 9 S0 (in), 10 S1 (in), 11 CK (in), 12 Q3 (out), 13 Q2 (out), 14 Q1 (out), 15 Q0 (out), 16 Vdd (power) hidden

## 40106
designator *  value 40106
part A pins: 1 (in), 2 (out), 7 Vss (power), 14 Vdd (power)
part B pins: 3 (in), 4 (out), 7 Vss (power), 14 Vdd (power)
part C pins: 5 (in), 6 (out), 7 Vss (power), 14 Vdd (power)
part D pins: 7 Vss (power), 8 (out), 9 (in), 14 Vdd (power)
part E pins: 7 Vss (power), 10 (out), 11 (in), 14 Vdd (power)
part F pins: 7 Vss (power), 12 (out), 13 (in), 14 Vdd (power)

## 40110
designator *  value 40110
pins: 1 Qa (out), 2 Qg (out), 3 Qf (out), 4 ~{{TE}} (in), 5 CLR (in), 6 LE (in), 7 CKd (in), 8 Vss (out) hidden, 9 CKu (in), 10 C (out), 11 B (out), 12 Qe (out), 13 Qd (out), 14 Qc (out), 15 Qb (out), 16 Vdd (out) hidden

## 40160
designator *  value 40160
pins: 1 MR (in), 2 CP (in), 3 P0 (in), 4 P1 (in), 5 P2 (in), 6 P3 (in), 7 CEP (in), 8 VSS (power), 9 PE (in), 10 CET (in), 11 Q3 (out), 12 Q2 (out), 13 Q1 (out), 14 Q0 (out), 15 TC (out), 16 VDD (power)

## 40161
designator *  value 40161
pins: 1 MR (in), 2 CP (in), 3 P0 (in), 4 P1 (in), 5 P2 (in), 6 P3 (in), 7 CEP (in), 8 VSS (power), 9 PE (in), 10 CET (in), 11 Q3 (out), 12 Q2 (out), 13 Q1 (out), 14 Q0 (out), 15 TC (out), 16 VDD (power)

## 40162
designator *  value 40162
pins: 1 MR (in), 2 CP (in), 3 P0 (in), 4 P1 (in), 5 P2 (in), 6 P3 (in), 7 CEP (in), 8 VSS (power), 9 PE (in), 10 CET (in), 11 Q3 (out), 12 Q2 (out), 13 Q1 (out), 14 Q0 (out), 15 TC (out), 16 VDD (power)

## 40163
designator *  value 40163
pins: 1 MR (in), 2 CP (in), 3 P0 (in), 4 P1 (in), 5 P2 (in), 6 P3 (in), 7 CEP (in), 8 VSS (power), 9 PE (in), 10 CET (in), 11 Q3 (out), 12 Q2 (out), 13 Q1 (out), 14 Q0 (out), 15 TC (out), 16 VDD (power)

## 40174
designator *  value 40174
pins: 1 ~{{R}} (in), 2 (out), 3 (in), 4 (in), 5 (out), 6 (in), 7 (out), 8 Vss (power) hidden, 9 Ck (in), 10 (out), 11 (in), 12 (out), 13 (in), 14 (in), 15 (out), 16 Vdd (power) hidden

## 40175
designator *  value 40175
pins: 1 ~{{R}} (in), 2 (out), 3 (out), 4 (in), 5 (in), 6 (out), 7 (out), 8 Vss (power) hidden, 9 Ck (in), 10 (out), 11 (out), 12 (in), 13 (in), 14 (out), 15 (out), 16 Vdd (power) hidden

## 40192
designator *  value 40192
pins: 1 P1 (in), 2 Q1 (out), 3 Q0 (out), 4 DOWN (in), 5 UP (in), 6 Q2 (out), 7 Q3 (out), 8 VSS (power) hidden, 9 P3 (in), 10 P2 (in), 11 LOAD (in), 12 CO (out), 13 BO (out), 14 MR (in), 15 P0 (in), 16 VDD (power)

## 40193
designator *  value 40193
pins: 1 P1 (in), 2 Q1 (out), 3 Q0 (out), 4 DOWN (in), 5 UP (in), 6 Q2 (out), 7 Q3 (out), 8 VSS (power) hidden, 9 P3 (in), 10 P2 (in), 11 LOAD (in), 12 CO (out), 13 BO (out), 14 MR (in), 15 P0 (in), 16 VDD (power)

## 40194
designator *  value 40194
pins: 1 MR (in), 2 DSr (in), 3 D0 (in), 4 D1 (in), 5 D2 (in), 6 D3 (in), 7 DSl (in), 8 Vss (power) hidden, 9 S0 (in), 10 S1 (in), 11 CK (in), 12 Q3 (out), 13 Q2 (out), 14 Q1 (out), 15 Q0 (out), 16 Vdd (power) hidden

## 40240
designator *  value 40240
part A pins: 1 ~{{EN}} (in), 2 (in), 4 (in), 6 (in), 6 (in), 8 (in), 10 Vss (power) hidden, 12 (out), 14 (out), 16 (out), 18 (out), 20 Vdd (power) hidden
part B pins: 3 (out), 5 (out), 7 (out), 9 (out), 10 Vss (power) hidden, 11 (in), 13 (in), 15 (in), 17 (in), 19 ~{{EN}} (in), 20 Vdd (power) hidden

## 40244
designator *  value 40244
part A pins: 1 ~{{EN}} (in), 2 (in), 4 (in), 6 (in), 6 (in), 8 (in), 10 Vss (power) hidden, 12 (out), 14 (out), 16 (out), 18 (out), 20 Vdd (power) hidden
part B pins: 3 (out), 5 (out), 7 (out), 9 (out), 10 Vss (power) hidden, 11 (in), 13 (in), 15 (in), 17 (in), 19 ~{{EN}} (in), 20 Vdd (power) hidden

## 40245
designator *  value 40245
pins: 1 Dir (out), 2 (out), 3 (out), 4 (out), 5 (out), 6 (out), 7 (out), 8 (out), 9 (out), 10 Vss (power) hidden, 11 (io), 12 (io), 13 (io), 14 (io), 15 (io), 16 (io), 17 (io), 18 (io), 19 ~{{G}} (out), 20 Vdd (power) hidden

## 40373
designator *  value 40373
pins: 1 ~{{EN}} (in), 2 (out), 3 (in), 4 (in), 5 (out), 6 (out), 7 (in), 8 (in), 9 (out), 10 Vss (power) hidden, 11 ST (in), 12 (out), 13 (in), 14 (in), 15 (out), 16 (out), 17 (in), 18 (in), 19 (out), 20 Vdd (power) hidden

## 40374
designator *  value 40374
ki_keywords: CMOS BUFFER 3State; ki_description: 8-bit D-flip-flop with 3-State outputs; Supplier: https://www.digchip.com/datasheets/download_datasheet.php?id=369790&part-number=HEF40374BDB
pins: 1 ~{{E}} (in), 2 (hiz), 3 (in), 4 (in), 5 (hiz), 6 (hiz), 7 (in), 8 (in), 9 (hiz), 10 Vss (power) hidden, 11 Ck (in), 12 (hiz), 13 (in), 14 (in), 15 (hiz), 16 (hiz), 17 (in), 18 (in), 19 (hiz), 20 Vdd (power) hidden